# EAGLE library part MEGA8L-DEV (library ATMEGA8L-M)
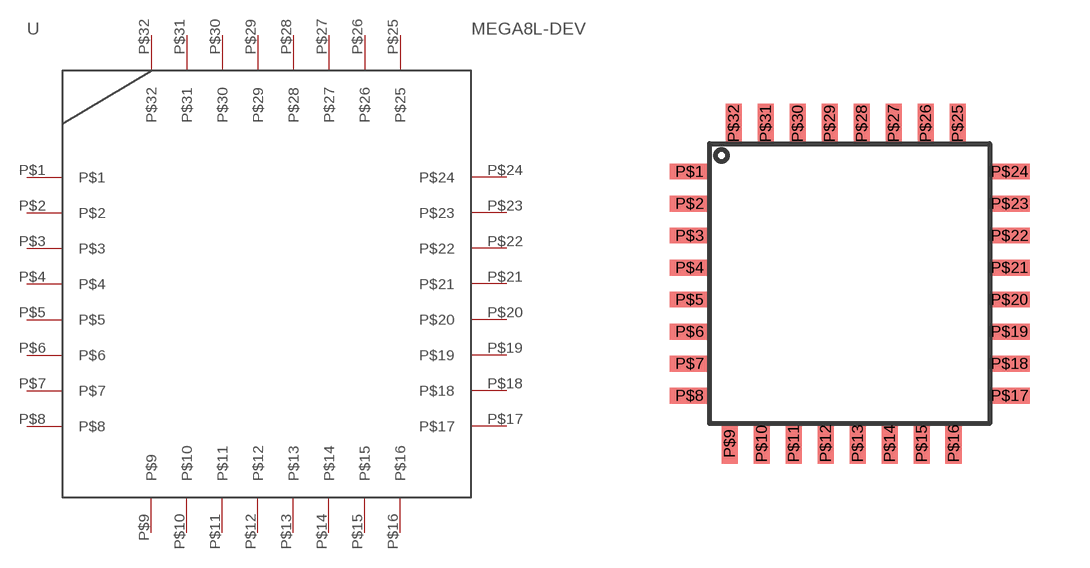
[diagram p0: symbol with the pads of TQFP-MEGA8L; footprint TQFP-MEGA8L]

Designator prefix -

## MEGA8L-DEV  [TQFP-MEGA8L]
P$1  P$1
P$2  P$2
P$3  P$3
P$4  P$4
P$5  P$5
P$6  P$6
P$7  P$7
P$8  P$8
P$9  P$9
P$10  P$10
P$11  P$11
P$12  P$12
P$13  P$13
P$14  P$14
P$15  P$15
P$16  P$16
P$17  P$17
P$18  P$18
P$19  P$19
P$20  P$20
P$21  P$21
P$22  P$22
P$23  P$23
P$24  P$24
P$25  P$25
P$26  P$26
P$27  P$27
P$28  P$28
P$29  P$29
P$30  P$30
P$31  P$31
P$32  P$32

## Footprint TQFP-MEGA8L (pad centres in mm)
smd 1 x 0.4: P$1 -2,-8; P$2 -2,-8.8; P$3 -2,-9.6; P$4 -2,-10.4; P$5 -2,-11.2; P$6 -2,-12; P$7 -2,-12.8; P$8 -2,-13.6; P$17 6,-13.6; P$18 6,-12.8; P$19 6,-12; P$20 6,-11.2; P$21 6,-10.4; P$22 6,-9.6; P$23 6,-8.8; P$24 6,-8
smd 0.4 x 1: P$9 -1,-14.8; P$10 -0.2,-14.8; P$11 0.6,-14.8; P$12 1.4,-14.8; P$13 2.2,-14.8; P$14 3,-14.8; P$15 3.8,-14.8; P$16 4.6,-14.8; P$25 4.7,-6.8; P$26 3.9,-6.8; P$27 3.1,-6.8; P$28 2.3,-6.8; P$29 1.5,-6.8; P$30 0.7,-6.8; P$31 -0.1,-6.8; P$32 -0.9,-6.8